# Altium footprint library adafruit.PCBLIB: 643 footprints (part 38 of 41)
Each footprint in its own frame and in the unit in brackets; x right, y up, seen from the top. Pads: shape width x height; smd on the part's side, far side on the other; paste and mask are expansions set on the pad; w line width, h text height; cw(c..) or ccw(c..) is an arc to the next point about the centre after c.
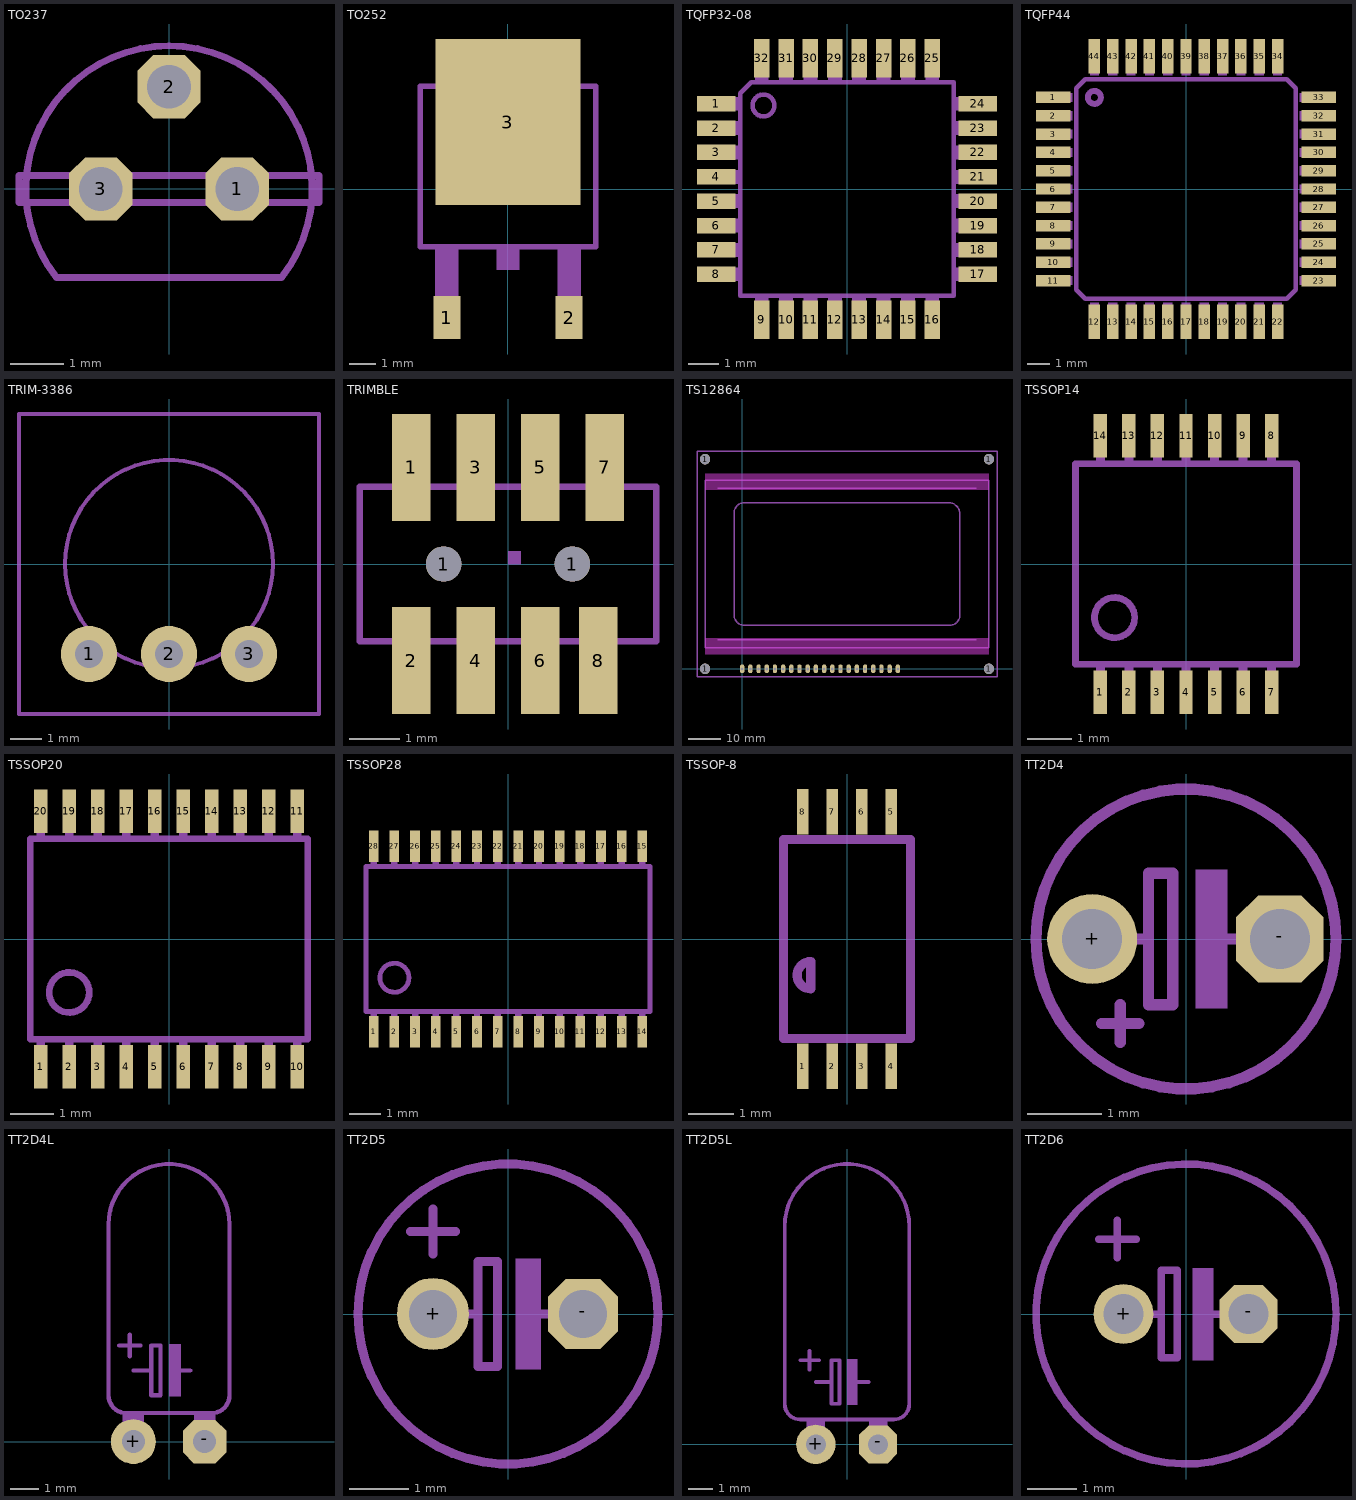
[diagram p37: the footprints below, top view; thin cyan lines are the x and y axes]

## TO237 [mil]
pads (3):
  oct 46.48x46.48 hole 32: 1(50,0) 2(0,75) 3(-50,0)
Mechanical 2:
  lines w5: -30.96,100.33 ccw(c0,0) -82.46,-65 82.46,-65 ccw(c0,0) 30.96,100.33 ; -110,-10 110,-10 110,10 -110,10 -110,-10
Mechanical 18:
  lines w5: -30.96,100.33 cw(c0,-0.02) 30.96,100.33

## TO252 [mm]
pads (3):
  rect 1x1.6 smd: 1(-2.28,-4.8) 2(2.28,-4.8)
  rect 5.4x6.2 smd: 3(0,2.5)
Mechanical 2:
  rectangle: -0.432,-3.023 0.432,-2.261
  lines w0.203: -3.277,3.835 -3.277,-2.159 3.277,-2.159 3.277,3.835
Mechanical 18:
  rectangle: -2.718,-5.156 -1.854,-2.261
  rectangle: 1.854,-5.156 2.718,-2.261
  region: 0,0 0.254,0 0.254,0.254 0,0.254
  lines w0.203: -3.277,3.835 3.277,3.835 ; -2.565,3.937 -2.565,4.648 -2.108,5.105 2.108,5.105 2.565,4.648 2.565,3.937 -2.565,3.937

## TQFP32-08 [mil]
pads (32):
  rect 50x20 smd: 1(-169,110.24) 2(-169,78.74) 3(-169,47.24) 4(-169,15.75) 5(-169,-15.75) 6(-169,-47.24) 7(-169,-78.74) 8(-169,-110.24) 17(169,-110.24) 18(169,-78.74) 19(169,-47.24) 20(169,-15.75) 21(169,15.75) 22(169,47.24) 23(169,78.74) 24(169,110.24)
  rect 20x50 smd: 9(-110.24,-169) 10(-78.74,-169) 11(-47.24,-169) 12(-15.75,-169) 13(15.75,-169) 14(47.24,-169) 15(78.74,-169) 16(110.24,-169) 25(110.24,169) 26(78.74,169) 27(47.24,169) 28(15.75,169) 29(-15.75,169) 30(-47.24,169) 31(-78.74,169) 32(-110.24,169)
Mechanical 2:
  circle w6: c-108,108 r14.14
  lines w6: -137.99,-137.99 137.99,-137.99 137.99,137.99 -124.02,137.99 -137.99,124.02 -137.99,-137.99
Mechanical 18:
  rectangle: -179,101.24 -140,119.24
  rectangle: -179,69.74 -140,87.74
  rectangle: -179,38.24 -140,56.24
  rectangle: -179,6.75 -140,24.75
  rectangle: -179,-24.75 -140,-6.75
  rectangle: -179,-56.24 -140,-38.24
  rectangle: -179,-87.74 -140,-69.74
  rectangle: -179,-119.24 -140,-101.24
  rectangle: -119.24,-179 -101.24,-140
  rectangle: -87.74,-179 -69.74,-140
  rectangle: -56.24,-179 -38.24,-140
  rectangle: -24.75,-179 -6.75,-140
  rectangle: 6.75,-179 24.75,-140
  rectangle: 38.24,-179 56.24,-140
  rectangle: 69.74,-179 87.74,-140
  rectangle: 101.24,-179 119.24,-140
  rectangle: 140,-119.24 179,-101.24
  rectangle: 140,-87.74 179,-69.74
  rectangle: 140,-56.24 179,-38.24
  rectangle: 140,-24.75 179,-6.75
  rectangle: 140,6.75 179,24.75
  rectangle: 140,38.24 179,56.24
  rectangle: 140,69.74 179,87.74
  rectangle: 140,101.24 179,119.24
  rectangle: 101.24,140 119.24,179
  rectangle: 69.74,140 87.74,179
  rectangle: 38.24,140 56.24,179
  rectangle: 6.75,140 24.75,179
  rectangle: -24.75,140 -6.75,179
  rectangle: -56.24,140 -38.24,179
  rectangle: -87.74,140 -69.74,179
  rectangle: -119.24,140 -101.24,179

## TQFP44 [mil]
pads (44):
  rect 59.06x19.69 smd: 1(-228.35,157.48) 2(-228.35,125.98) 3(-228.35,94.49) 4(-228.35,62.99) 5(-228.35,31.5) 6(-228.35,0) 7(-228.35,-31.5) 8(-228.35,-62.99) 9(-228.35,-94.49) 10(-228.35,-125.98) 11(-228.35,-157.48) 23(228.35,-157.48) 24(228.35,-125.98) 25(228.35,-94.49) 26(228.35,-62.99) 27(228.35,-31.5) 28(228.35,0) 29(228.35,31.5) 30(228.35,62.99) 31(228.35,94.49) 32(228.35,125.98) 33(228.35,157.48)
  rect 19.69x59.06 smd: 12(-157.48,-228.35) 13(-125.98,-228.35) 14(-94.49,-228.35) 15(-62.99,-228.35) 16(-31.5,-228.35) 17(0,-228.35) 18(31.5,-228.35) 19(62.99,-228.35) 20(94.49,-228.35) 21(125.98,-228.35) 22(157.48,-228.35) 34(157.48,228.35) 35(125.98,228.35) 36(94.49,228.35) 37(62.99,228.35) 38(31.5,228.35) 39(0,228.35) 40(-31.5,228.35) 41(-62.99,228.35) 42(-94.49,228.35) 43(-125.98,228.35) 44(-157.48,228.35)
Mechanical 2:
  circle w10: c-157.48,157.48 r11.13
  lines w8: -188.98,-173.23 -173.23,-188.98 173.23,-188.98 188.98,-173.23 188.98,173.23 173.23,188.98 -173.23,188.98 -188.98,173.23 -188.98,-173.23
Mechanical 18:
  rectangle: -240.16,149.61 -194.88,165.35
  rectangle: -240.16,118.11 -194.88,133.86
  rectangle: -240.16,86.61 -194.88,102.36
  rectangle: -240.16,55.12 -194.88,70.87
  rectangle: -240.16,23.62 -194.88,39.37
  rectangle: -240.16,-7.87 -194.88,7.87
  rectangle: -240.16,-39.37 -194.88,-23.62
  rectangle: -240.16,-70.87 -194.88,-55.12
  rectangle: -240.16,-102.36 -194.88,-86.61
  rectangle: -240.16,-133.86 -194.88,-118.11
  rectangle: -240.16,-165.35 -194.88,-149.61
  rectangle: -165.35,-240.16 -149.61,-194.88
  rectangle: -133.86,-240.16 -118.11,-194.88
  rectangle: -102.36,-240.16 -86.61,-194.88
  rectangle: -70.87,-240.16 -55.12,-194.88
  rectangle: -39.37,-240.16 -23.62,-194.88
  rectangle: -7.87,-240.16 7.87,-194.88
  rectangle: 23.62,-240.16 39.37,-194.88
  rectangle: 55.12,-240.16 70.87,-194.88
  rectangle: 86.61,-240.16 102.36,-194.88
  rectangle: 118.11,-240.16 133.86,-194.88
  rectangle: 149.61,-240.16 165.35,-194.88
  rectangle: 194.88,-165.35 240.16,-149.61
  rectangle: 194.88,-133.86 240.16,-118.11
  rectangle: 194.88,-102.36 240.16,-86.61
  rectangle: 194.88,-70.87 240.16,-55.12
  rectangle: 194.88,-39.37 240.16,-23.62
  rectangle: 194.88,-7.87 240.16,7.87
  rectangle: 194.88,23.62 240.16,39.37
  rectangle: 194.88,55.12 240.16,70.87
  rectangle: 194.88,86.61 240.16,102.36
  rectangle: 194.88,118.11 240.16,133.86
  rectangle: 194.88,149.61 240.16,165.35
  rectangle: 149.61,194.88 165.35,240.16
  rectangle: 118.11,194.88 133.86,240.16
  rectangle: 86.61,194.88 102.36,240.16
  rectangle: 55.12,194.88 70.87,240.16
  rectangle: 23.62,194.88 39.37,240.16
  rectangle: -7.87,194.88 7.87,240.16
  rectangle: -39.37,194.88 -23.62,240.16
  rectangle: -70.87,194.88 -55.12,240.16
  rectangle: -102.36,194.88 -86.61,240.16
  rectangle: -133.86,194.88 -118.11,240.16
  rectangle: -165.35,194.88 -149.61,240.16

## TRIM-3386 [mil]
pads (3):
  round 70 hole 35.43: 1(-100,-112.5) 2(0,-112.5) 3(100,-112.5)
Mechanical 2:
  circle w5: c0,0 r130
  lines w5: -187.5,-187.5 187.5,-187.5 187.5,187.5 -187.5,187.5 -187.5,-187.5

## TRIMBLE [mil]
pads (10):
  rect 30x83 smd: 1(-75,75) 2(-75,-75) 3(-25,75) 4(-25,-75) 5(25,75) 6(25,-75) 7(75,75) 8(70,-75)
  round 27.56 hole 27.56: 1(-50,0) 1(50,0)
Mechanical 2:
  lines w5: -115,-60 -115,60 115,60 115,-60 -115,-60
Mechanical 12:
  region: 0,0 10,0 10,10 0,10

## TS12864 [mil]
pads (24):
  round 125.98 hole 125.98: 1(-452.76,0) 1(-452.76,2559.06) 1(3011.81,0) 1(3011.81,2559.06)
  oval 53.15x106.29 hole 35.43: 1(1900,0) 2(1800,0) 3(1700,0) 4(1600,0) 5(1500,0) 6(1400,0) 7(1300,0) 8(1200,0) 9(1100,0) 10(1000,0) 11(900,0) 12(800,0) 13(700,0) 14(600,0) 15(500,0) 16(400,0) 17(300,0) 18(200,0) 19(100,0) 20(0,0)
Keep-Out Layer:
  rectangle: -452.76,2185.04 3011.81,2381.89
  rectangle: -452.76,177.17 3011.81,374.02
Mechanical 18:
  lines w16: -295.28,354.33 2854.33,354.33 ; -295.28,2204.72 2854.33,2204.72 ; -551.18,-98.43 3110.24,-98.43 3110.24,2657.48 -551.18,2657.48 -551.18,-98.43 ; -452.76,255.91 3011.81,255.91 3011.81,2303.15 -452.76,2303.15 -452.76,255.91 ; -98.43,657.54 ccw(c27.61,657.54) 27.62,531.5 2531.44,531.5 ccw(c2531.44,657.54) 2657.48,657.54 2657.48,1888.37 ccw(c2518.29,1888.37) 2518.29,2027.56 27.62,2027.56 ccw(c27.61,1901.52) -98.43,1901.52 -98.43,657.54

## TSSOP14 [mil]
pads (14):
  rect 12x39 smd: 1(-76.77,-114.87) 2(-51.18,-114.87) 3(-25.59,-114.87) 4(0,-114.87) 5(25.59,-114.87) 6(51.18,-114.87) 7(76.77,-114.87) 8(76.77,114.87) 9(51.18,114.87) 10(25.59,114.87) 11(0,114.87) 12(-25.59,114.87) 13(-51.18,114.87) 14(-76.77,114.87)
Mechanical 2:
  circle w6: c-64,-48 r18
  lines w6: -99,-89.87 -99,89.87 ; 99,-89.87 99,89.87
Mechanical 18:
  rectangle: -80.77,-122.87 -72.77,-89.87
  rectangle: -55.18,-122.87 -47.18,-89.87
  rectangle: -29.59,-122.87 -21.59,-89.87
  rectangle: -4,-122.87 4,-89.87
  rectangle: 21.59,-122.87 29.59,-89.87
  rectangle: 47.18,-122.87 55.18,-89.87
  rectangle: 72.77,-122.87 80.77,-89.87
  rectangle: 72.77,89.87 80.77,122.87
  rectangle: 47.18,89.87 55.18,122.87
  rectangle: 21.59,89.87 29.59,122.87
  rectangle: -4,89.87 4,122.87
  rectangle: -29.59,89.87 -21.59,122.87
  rectangle: -55.18,89.87 -47.18,122.87
  rectangle: -80.77,89.87 -72.77,122.87
  lines w6: -99,-89.87 99,-89.87 ; -99,89.87 99,89.87

## TSSOP20 [mil]
pads (20):
  rect 12x39 smd: 1(-115.16,-114.87) 2(-89.57,-114.87) 3(-63.98,-114.87) 4(-38.39,-114.87) 5(-12.8,-114.87) 6(12.8,-114.87) 7(38.39,-114.87) 8(63.98,-114.87) 9(89.57,-114.87) 10(115.16,-114.87) 11(115.16,114.87) 12(89.57,114.87) 13(63.98,114.87) 14(38.39,114.87) 15(12.8,114.87) 16(-12.8,114.87) 17(-38.39,114.87) 18(-63.98,114.87) 19(-89.57,114.87) 20(-115.16,114.87)
Mechanical 2:
  circle w6: c-89.59,-48 r18
  lines w6: -124.59,-89.87 -124.59,89.87 ; 124.59,-89.87 124.59,89.87
Mechanical 18:
  rectangle: -119.16,-122.87 -111.16,-89.87
  rectangle: -93.57,-122.87 -85.57,-89.87
  rectangle: -67.98,-122.87 -59.98,-89.87
  rectangle: -42.39,-122.87 -34.39,-89.87
  rectangle: -16.8,-122.87 -8.8,-89.87
  rectangle: 8.8,-122.87 16.8,-89.87
  rectangle: 34.39,-122.87 42.39,-89.87
  rectangle: 59.98,-122.87 67.98,-89.87
  rectangle: 59.98,89.87 67.98,122.87
  rectangle: 34.39,89.87 42.39,122.87
  rectangle: 8.8,89.87 16.8,122.87
  rectangle: -16.8,89.87 -8.8,122.87
  rectangle: -42.39,89.87 -34.39,122.87
  rectangle: -67.98,89.87 -59.98,122.87
  rectangle: -93.57,89.87 -85.57,122.87
  rectangle: -119.16,89.87 -111.16,122.87
  rectangle: 85.57,-122.87 93.57,-89.87
  rectangle: 111.16,-122.87 119.16,-89.87
  rectangle: 85.57,89.87 93.57,122.87
  rectangle: 111.16,89.87 119.16,122.87
  lines w6: -124.59,-89.87 124.59,-89.87 ; -124.59,89.87 124.59,89.87

## TSSOP28 [mil]
pads (28):
  rect 12x39 smd: 1(-166.34,-114.87) 2(-140.75,-114.87) 3(-115.16,-114.87) 4(-89.57,-114.87) 5(-63.98,-114.87) 6(-38.39,-114.87) 7(-12.8,-114.87) 8(12.8,-114.87) 9(38.39,-114.87) 10(63.98,-114.87) 11(89.57,-114.87) 12(115.16,-114.87) 13(140.75,-114.87) 14(166.34,-114.87) 15(166.34,114.87) 16(140.75,114.87) 17(115.16,114.87) 18(89.57,114.87) 19(63.98,114.87) 20(38.39,114.87) 21(12.8,114.87) 22(-12.8,114.87) 23(-38.39,114.87) 24(-63.98,114.87) 25(-89.57,114.87) 26(-115.16,114.87) 27(-140.75,114.87) 28(-166.34,114.87)
Mechanical 2:
  circle w6: c-140.77,-48 r18
  lines w6: -175.77,-89.87 -175.77,89.87 ; 175.77,-89.87 175.77,89.87
Mechanical 18:
  rectangle: -170.34,-122.87 -162.34,-89.87
  rectangle: -144.75,-122.87 -136.75,-89.87
  rectangle: -119.16,-122.87 -111.16,-89.87
  rectangle: -93.57,-122.87 -85.57,-89.87
  rectangle: -67.98,-122.87 -59.98,-89.87
  rectangle: -42.39,-122.87 -34.39,-89.87
  rectangle: -16.8,-122.87 -8.8,-89.87
  rectangle: 8.8,-122.87 16.8,-89.87
  rectangle: 8.8,89.87 16.8,122.87
  rectangle: -16.8,89.87 -8.8,122.87
  rectangle: -42.39,89.87 -34.39,122.87
  rectangle: -67.98,89.87 -59.98,122.87
  rectangle: -93.57,89.87 -85.57,122.87
  rectangle: -119.16,89.87 -111.16,122.87
  rectangle: -144.75,89.87 -136.75,122.87
  rectangle: -170.34,89.87 -162.34,122.87
  rectangle: 34.39,-122.87 42.39,-89.87
  rectangle: 59.98,-122.87 67.98,-89.87
  rectangle: 34.39,89.87 42.39,122.87
  rectangle: 59.98,89.87 67.98,122.87
  rectangle: 85.57,-122.87 93.57,-89.87
  rectangle: 111.16,-122.87 119.16,-89.87
  rectangle: 136.75,-122.87 144.75,-89.87
  rectangle: 162.34,-122.87 170.34,-89.87
  rectangle: 162.34,89.87 170.34,122.87
  rectangle: 136.75,89.87 144.75,122.87
  rectangle: 111.16,89.87 119.16,122.87
  rectangle: 85.57,89.87 93.57,122.87
  lines w6: -175.77,-89.87 175.77,-89.87 ; -175.77,89.87 175.77,89.87

## TSSOP-8 [mm]
pads (8):
  rect 0.25x1 smd: 1(-0.975,-2.813) 2(-0.325,-2.813) 3(0.325,-2.813) 4(0.975,-2.813) 5(0.975,2.813) 6(0.325,2.813) 7(-0.325,2.813) 8(-0.975,2.813)
Mechanical 2:
  lines w0.127: -1.1,2.2 -1,2.2
  lines w0.203: -1.4,-2.2 1.4,-2.2 1.4,2.2 -1,2.2 -1.4,2.2 -1.4,-2.2 ; -0.8,-1.1 cw(c-0.8,-0.8) -0.8,-0.5 -0.8,-1.1

## TT2D4 [mil]
pads (2):
  round 48 hole 32: +(-50,0)
  oct 46.48x46.48 hole 32: -(50,0)
Mechanical 2:
  lines w6: -66.87,-43.91 ccw(c0,0) 66.87,-43.91 ; -66.87,43.91 cw(c0,0) 66.87,43.91 ; -45,-45 -25,-45 ; -35,-55 -35,-35
Mechanical 18:
  rectangle: 5,-37 22,37
  lines w6: -66.87,-43.91 cw(c0,0) -66.87,43.91 ; -40,0 -20,0 ; 20,0 40,0 ; 66.87,-43.91 ccw(c0,0) 66.87,43.91 ; -20,0 -20,-35 -7,-35 -7,35 -20,35 -20,0

## TT2D4L [mil]
pads (2):
  round 63 hole 32: +(-50,0)
  oct 61x61 hole 32: -(50,0)
Mechanical 2:
  rectangle: 0,63 17,137
  lines w6: -70,135 -40,135 ; -55,120 -55,150 ; -50,100 -25,100 ; 10,100 30,100 ; -25,100 -25,65 -12,65 -12,135 -25,135 -25,100 ; -85,65 ccw(c-60,65) -60,40 60,40 ccw(c60,65) 85,65 85,305 ccw(c0,305) -85,305 -85,65
Mechanical 18:
  rectangle: -65,25 -35,40
  rectangle: 35,25 65,40
  rectangle: 35,-5 65,25
  rectangle: -65,-5 -35,25

## TT2D5 [mil]
pads (2):
  round 48 hole 32: +(-50,0)
  oct 46.48x46.48 hole 32: -(50,0)
Mechanical 2:
  circle w6: c0,0 r100
  lines w6: -65,55 -35,55 ; -50,40 -50,70
Mechanical 18:
  rectangle: 5,-37 22,37
  lines w6: -40,0 -20,0 ; 20,0 40,0 ; -20,0 -20,-35 -7,-35 -7,35 -20,35 -20,0

## TT2D5L [mil]
pads (2):
  round 63 hole 32: +(-50,0)
  oct 61x61 hole 32: -(50,0)
Mechanical 2:
  rectangle: 0,63 17,137
  lines w6: -75,135 -45,135 ; -60,120 -60,150 ; -50,100 -25,100 ; 15,100 35,100 ; -25,100 -25,65 -12,65 -12,135 -25,135 -25,100 ; -100,65 -100,350 cw(c0,350) 100,350 100,65 cw(c75,65) 75,40 -75,40 cw(c-75,65) -100,65
Mechanical 18:
  rectangle: -65,25 -35,40
  rectangle: 35,25 65,40
  rectangle: 35,-5 65,25
  rectangle: -65,-5 -35,25

## TT2D6 [mil]
pads (2):
  round 48 hole 32: +(-50,0)
  oct 46.48x46.48 hole 32: -(50,0)
Mechanical 2:
  circle w6: c0,0 r120
  lines w6: -70,60 -40,60 ; -55,45 -55,75
Mechanical 18:
  rectangle: 5,-37 22,37
  lines w6: -40,0 -20,0 ; 20,0 40,0 ; -20,0 -20,-35 -7,-35 -7,35 -20,35 -20,0